# Altium footprint library con-3m.PCBLIB: 62 footprints (part 2 of 6)
Each footprint in its own frame and in the unit in brackets; x right, y up, seen from the top. Pads: shape width x height; smd on the part's side, far side on the other; paste and mask are expansions set on the pad; w line width, h text height; cw(c..) or ccw(c..) is an arc to the next point about the centre after c.
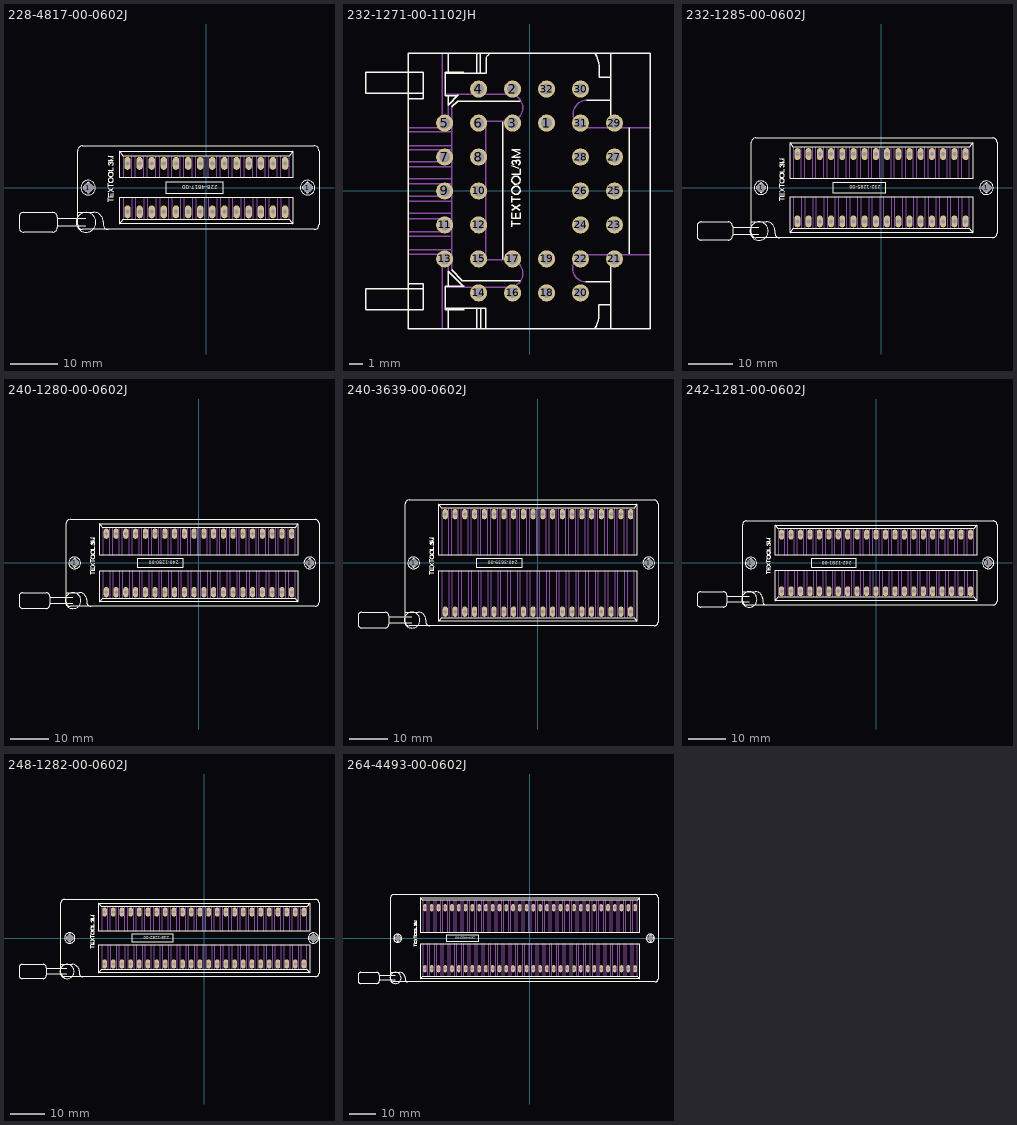
[diagram p1: the footprints below, top view; thin cyan lines are the x and y axes]

## 228-4817-00-0602J [mm]
pads (30):
  round 2 hole 2: 1(-24.74,0) 1(21.24,0)
  oval 1.35x2.7 hole 0.9: 1(-16.51,-5.08) 2(-13.97,-5.08) 3(-11.43,-5.08) 4(-8.89,-5.08) 5(-6.35,-5.08) 6(-3.81,-5.08) 7(-1.27,-5.08) 8(1.27,-5.08) 9(3.81,-5.08) 10(6.35,-5.08) 11(8.89,-5.08) 12(11.43,-5.08) 13(13.97,-5.08) 14(16.51,-5.08) 15(16.51,5.08) 16(13.97,5.08) 17(11.43,5.08) 18(8.89,5.08) 19(6.35,5.08) 20(3.81,5.08) 21(1.27,5.08) 22(-1.27,5.08) 23(-3.81,5.08) 24(-6.35,5.08) 25(-8.89,5.08) 26(-11.43,5.08) 27(-13.97,5.08) 28(-16.51,5.08)
Top Overlay:
  circle w0.102: c-24.75,0 r1.53
  circle w0.203: c-25.19,-7.27 r2.072
  circle w0.102: c21.23,0 r1.53
  lines w0.102: -24.99,-0.3 ccw(c-25.06,-0.3) -25.06,-0.23 -25.6,-0.23 cw(c-25.6,0) -25.83,0 cw(c-25.6,0) -25.6,0.23 -25.05,0.23 ccw(c-25.05,0.3) -24.98,0.3 ; -24.98,-0.3 -24.98,-0.85 ccw(c-24.75,-0.85) -24.75,-1.08 ccw(c-24.75,-0.85) -24.52,-0.85 -24.52,-0.31 ; -24.98,0.31 -24.98,0.85 cw(c-24.75,0.85) -24.75,1.08 cw(c-24.75,0.85) -24.52,0.85 -24.52,0.3 ccw(c-24.45,0.3) -24.45,0.23 ; -24.52,-0.3 cw(c-24.45,-0.3) -24.45,-0.23 -23.9,-0.23 ccw(c-23.9,0) -23.67,0 ccw(c-23.9,0) -23.9,0.23 -24.44,0.23 ; -20.56,3.61 -19.51,3.61 -19.51,4.18 ; -20.54,-2.94 -20.54,-2.15 ; -20.54,-1.18 -20.54,-1.88 -19.5,-1.88 -19.5,-1.15 ; -20.54,-0.84 -19.5,-0.12 ; -20.54,-0.12 -19.5,-0.84 ; -20.54,0.12 -20.54,0.9 ; -20.53,-2.54 -19.5,-2.54 ; -20.52,0.52 -19.5,0.52 ; -20.25,4.76 cw(c-20.184,5.072) -20.5,5.11 cw(c-20.271,5.082) -20.39,5.28 cw(c-20.235,5.023) -20.12,5.3 cw(c-20.195,5.12) -20,5.12 ; -20.03,-1.84 -20.03,-1.24 ; -20,5.03 -20,5.12 ; -19.73,4.74 ccw(c-19.724,4.968) -19.5,4.92 ccw(c-20.075,5.046) -19.49,5.11 ccw(c-19.786,5.077) -19.6,5.31 ccw(c-19.754,5.117) -19.88,5.33 ccw(c-19.756,5.12) -20,5.12 ; -19.5,5.66 -20.53,5.66 -19.5,6.13 -20.54,6.61 -19.5,6.61 ; 20.99,-0.3 ccw(c20.92,-0.3) 20.92,-0.23 20.38,-0.23 cw(c20.38,0) 20.15,0 cw(c20.38,0) 20.38,0.23 20.93,0.23 ccw(c20.93,0.3) 21,0.3 ; 21,-0.3 21,-0.85 ccw(c21.23,-0.85) 21.23,-1.08 ccw(c21.23,-0.85) 21.46,-0.85 21.46,-0.31 ; 21,0.31 21,0.85 cw(c21.23,0.85) 21.23,1.08 cw(c21.23,0.85) 21.46,0.85 21.46,0.3 ccw(c21.53,0.3) 21.53,0.23 ; 21.46,-0.3 cw(c21.53,-0.3) 21.53,-0.23 22.08,-0.23 ccw(c22.08,0) 22.31,0 ccw(c22.08,0) 22.08,0.23 21.54,0.23 ; -18.161,-7.62 18.161,-7.62 ; -18.161,-7.62 -18.161,-2.032 18.161,-2.032 18.161,-7.62 ; -18.161,-7.62 -17.399,-6.604 17.399,-6.604 18.161,-7.62 ; -18.161,7.62 -18.161,2.032 18.161,2.032 18.161,7.62 ; -18.161,7.62 18.161,7.62 ; -18.161,7.62 -17.399,6.604 17.399,6.604 18.161,7.62 ; -20.08,1.1 cw(c-20.08,1.57) -20.08,2.04 -19.95,2.04 cw(c-19.95,1.57) -19.95,1.1 -20.08,1.1 ; -20.08,2.33 cw(c-20.08,2.8) -20.08,3.27 -19.95,3.27 cw(c-19.95,2.8) -19.95,2.33 -20.08,2.33 ; -8.382,-1.27 3.429,-1.27 3.429,1.27 -8.382,1.27 -8.382,-1.27
  lines w0.203: -31.15,-8.07 -25.24,-8.07 ; -31.15,-6.52 -25.24,-6.52 ; -26.84,-5.17 -23.59,-5.17 cw(c-23.59,-7.171) -21.59,-7.12 -21.59,-7.77 ccw(c-20.589,-7.77) -20.54,-8.77 ; -39.25,-8.34 -39.25,-6.2 cw(c-38.25,-6.2) -38.25,-5.2 -32.2,-5.2 cw(c-32.2,-6.2) -31.2,-6.2 -31.2,-8.34 cw(c-32.2,-8.34) -32.2,-9.34 -38.25,-9.34 cw(c-38.25,-8.34) -39.25,-8.34 ; -26.95,-7.77 ccw(c-25.95,-7.77) -25.95,-8.77 22.63,-8.77 ccw(c22.63,-7.77) 23.63,-7.77 23.63,7.77 ccw(c22.63,7.77) 22.63,8.77 -25.95,8.77 ccw(c-25.95,7.77) -26.95,7.77 -26.95,-7.77
  text "228-4817-00" at 2.413,0.508 h0.86
Mechanical 16:
  lines w0.102: -17.399,-6.604 -17.399,-2.032 ; -17.399,2.032 -17.399,6.604 ; -15.621,-6.604 -15.621,-2.032 ; -15.621,2.032 -15.621,6.604 ; -14.859,-6.604 -14.859,-2.032 ; -14.859,2.032 -14.859,6.604 ; -13.081,-6.604 -13.081,-2.032 ; -13.081,2.032 -13.081,6.604 ; -12.319,-6.604 -12.319,-2.032 ; -12.319,2.032 -12.319,6.604 ; -10.541,-6.604 -10.541,-2.032 ; -10.541,2.032 -10.541,6.604 ; -9.779,-6.604 -9.779,-2.032 ; -9.779,2.032 -9.779,6.604 ; -8.001,-6.604 -8.001,-2.032 ; -8.001,2.032 -8.001,6.604 ; -7.239,-6.604 -7.239,-2.032 ; -7.239,2.032 -7.239,6.604 ; -5.461,-6.604 -5.461,-2.032 ; -5.461,2.032 -5.461,6.604 ; -4.699,-6.604 -4.699,-2.032 ; -4.699,2.032 -4.699,6.604 ; -2.921,-6.604 -2.921,-2.032 ; -2.921,2.032 -2.921,6.604 ; -2.159,-6.604 -2.159,-2.032 ; -2.159,2.032 -2.159,6.604 ; -0.381,-6.604 -0.381,-2.032 ; -0.381,2.032 -0.381,6.604 ; 0.381,-6.604 0.381,-2.032 ; 0.381,2.032 0.381,6.604 ; 2.159,-6.604 2.159,-2.032 ; 2.159,2.032 2.159,6.604 ; 2.921,-6.604 2.921,-2.032 ; 2.921,2.032 2.921,6.604 ; 4.699,-6.604 4.699,-2.032 ; 4.699,2.032 4.699,6.604 ; 5.461,-6.604 5.461,-2.032 ; 5.461,2.032 5.461,6.604 ; 7.239,-6.604 7.239,-2.032 ; 7.239,2.032 7.239,6.604 ; 8.001,-6.604 8.001,-2.032 ; 8.001,2.032 8.001,6.604 ; 9.779,-6.604 9.779,-2.032 ; 9.779,2.032 9.779,6.604 ; 10.541,-6.604 10.541,-2.032 ; 10.541,2.032 10.541,6.604 ; 12.319,-6.604 12.319,-2.032 ; 12.319,2.032 12.319,6.604 ; 13.081,-6.604 13.081,-2.032 ; 13.081,2.032 13.081,6.604 ; 14.859,-6.604 14.859,-2.032 ; 14.859,2.032 14.859,6.604 ; 15.621,-6.604 15.621,-2.032 ; 15.621,2.032 15.621,6.604 ; 17.399,-6.604 17.399,-2.032 ; 17.399,2.032 17.399,6.604

## 232-1271-00-1102JH [mil]
pads (32):
  round 50 hole 31.5: 1(50,200) 2(-50,300) 3(-50,200) 4(-150,300) 5(-250,200) 6(-150,200) 7(-250,100) 8(-150,100) 9(-250,0) 10(-150,0) 11(-250,-100) 12(-150,-100) 13(-250,-200) 14(-150,-300) 15(-150,-200) 16(-50,-300) 17(-50,-200) 18(50,-300) 19(50,-200) 20(150,-300) 21(250,-200) 22(150,-200) 23(250,-100) 24(150,-100) 25(250,0) 26(150,0) 27(250,100) 28(150,100) 29(250,200) 30(150,300) 31(150,200) 32(50,300)
Top Overlay:
  circle w4: c-40.01,1.98 r12.12
  circle w4: c-40.01,31.96 r12.12
  lines w4: -482.64,-348.94 -358.37,-348.94 ; -482.64,-348.8 -482.64,-288.21 ; -482.64,-287.85 -358.37,-287.85 ; -482.64,287.35 -358.37,287.35 ; -482.64,287.72 -482.64,349.58 ; -482.64,349.71 -359.01,349.71 ; -355.72,-348.94 -312.45,-348.94 -312.45,-272.57 -355.72,-272.57 ; -355.72,-287.85 -315,-287.85 ; -355.72,287.35 -315,287.35 ; -355.72,349.71 -312.45,349.71 -312.45,272.07 -354.45,272.07 ; -246.27,-345.12 -239.91,-345.12 ; -245,345.89 -127.91,345.89 -127.91,386.62 cw(c-108.82,386.62) -108.82,405.71 ; -239.91,-403.66 -239.91,-345.12 ; -239.91,-278.94 -239.91,-235.66 -196.63,-278.94 ; -239.91,279.71 -239.91,252.98 -209.98,282.9 ; -239.91,349.71 -239.91,404.44 ; -229.72,-231.84 -197.91,-263.66 -27.36,-263.66 ; -228.45,247.89 -211.9,264.44 -27.36,264.44 ; -214.5,280.98 -247.54,280.98 -247.54,349.71 -194.09,349.71 ; -192.82,-280.21 -247.54,-280.21 -247.54,-348.94 -192.7,-348.94 ; -155.91,-404.93 -155.91,-347.66 ; -155.91,348.44 -155.91,403.16 ; -144.45,348.44 -144.45,403.16 ; -143.18,-403.66 -143.18,-347.66 ; -129.18,-404.93 -129.18,-345.12 -239.91,-345.12 ; -78.27,-201.3 -78.27,202.07 ; -52.13,-105.17 -52.13,-87.31 ; -52.13,-64.35 -52.13,-80.93 -27.89,-80.93 -27.89,-64.35 ; -52.13,-56.69 -27.89,-40.11 ; -52.13,-40.75 -28.53,-56.69 ; -52.13,-33.73 -52.13,-15.87 ; -52.13,49.18 -27.89,49.18 -27.89,65.76 ; -52.13,74.06 -32.35,67.68 ; -50.85,-96.24 -27.89,-96.24 ; -50.85,-24.8 -27.89,-24.8 ; -46.39,77.88 cw(c-38.35,97.09) -48.94,79.16 cw(c-46.1,83.98) -47.66,89.36 cw(c-45.43,81.71) -43.2,89.36 cw(c-44.69,84.26) -39.37,84.26 ; -40.65,-79.02 -40.65,-65.62 ; -39.37,82.35 -39.37,84.26 ; -32.99,77.24 ccw(c-34.11,83.05) -29.17,79.8 ccw(c-35.3,83.85) -30.44,89.36 ccw(c-33.9,85.44) -38.73,87.45 ccw(c-31.07,84.25) -39.37,84.26 ; -27.89,99.57 -52.13,99.57 -27.89,110.41 -52.13,121.25 -27.89,121.25 ; 166.09,-267.48 237.36,-267.48 ; 168.63,266.98 236.09,266.98 ; 191.55,-404.93 ccw(c132.75,-364.21) 204.27,-364.21 204.27,-334.94 237.36,-334.94 ; 192.82,404.44 cw(c116.71,358.62) 205.55,358.62 205.55,334.44 236.09,334.44 ; 238.64,-404.93 238.64,-189.85 ; 238.64,189.35 238.64,403.16 ; 293.36,-184.76 293.36,185.53 ; -108.82,405.71 355.72,405.71 355.72,-406.21 -357,-406.21 -357,405.71 -108.82,405.71
Mechanical 16:
  lines w4: -355.09,-133.84 -232.91,-133.84 ; -355.09,-119.84 -232.91,-119.84 ; -354.45,-186.03 -229.72,-186.03 -229.72,186.8 -354.45,186.8 ; -354.45,-173.3 -232.27,-173.3 ; -354.45,-30.1 -232.27,-30.1 ; -354.45,-14.83 -232.27,-14.83 ; -354.45,20.81 -232.27,20.81 ; -354.45,35.97 -232.27,35.97 ; -354.45,71.61 -232.27,71.61 ; -354.45,85.61 -232.27,85.61 ; -354.45,121.24 -232.27,121.24 ; -354.45,132.7 -232.27,132.7 ; -354.45,174.07 -232.27,174.07 ; -353.81,-81.01 -230.36,-81.01 ; -353.81,-65.74 -231.63,-65.74 ; -256.45,-403.66 -256.45,-187.3 ; -256.45,189.35 -256.45,404.44 ; -246.27,284.8 -59.18,284.8 cw(c-59.18,245.34) -19.72,245.35 cw(c-60.45,245.35) -60.45,204.62 -129.18,204.62 -129.18,-202.57 -59.18,-202.57 cw(c-59.18,-242.03) -19.72,-242.03 cw(c-61.72,-242.03) -61.72,-284.03 -245,-284.03 ; -239.91,-235.66 -239.91,-187.3 ; -239.91,189.35 -239.91,252.98 ; -229.72,-231.84 -229.72,-187.3 ; -228.45,188.07 -228.45,247.89 ; 166.09,-267.48 cw(c166.1,-228.02) 126.64,-228.03 cw(c167.37,-228.03) 167.37,-187.3 354.45,-187.3 ; 168.63,266.98 ccw(c168.63,226.26) 127.91,226.26 ccw(c167.37,226.26) 167.37,186.8 354.45,186.8

## 232-1285-00-0602J [mm]
pads (34):
  round 2 hole 2: 1(-27.28,0) 1(23.78,0)
  oval 1.35x2.7 hole 0.9: 1(-19.05,-7.62) 2(-16.51,-7.62) 3(-13.97,-7.62) 4(-11.43,-7.62) 5(-8.89,-7.62) 6(-6.35,-7.62) 7(-3.81,-7.62) 8(-1.27,-7.62) 9(1.27,-7.62) 10(3.81,-7.62) 11(6.35,-7.62) 12(8.89,-7.62) 13(11.43,-7.62) 14(13.97,-7.62) 15(16.51,-7.62) 16(19.05,-7.62) 17(19.05,7.62) 18(16.51,7.62) 19(13.97,7.62) 20(11.43,7.62) 21(8.89,7.62) 22(6.35,7.62) 23(3.81,7.62) 24(1.27,7.62) 25(-1.27,7.62) 26(-3.81,7.62) 27(-6.35,7.62) 28(-8.89,7.62) 29(-11.43,7.62) 30(-13.97,7.62) 31(-16.51,7.62) 32(-19.05,7.62)
Top Overlay:
  circle w0.102: c-27.29,0 r1.53
  circle w0.203: c-27.73,-9.81 r2.072
  circle w0.102: c23.77,0 r1.53
  lines w0.102: -27.53,-0.3 ccw(c-27.6,-0.3) -27.6,-0.23 -28.14,-0.23 cw(c-28.14,0) -28.37,0 cw(c-28.14,0) -28.14,0.23 -27.59,0.23 ccw(c-27.59,0.3) -27.52,0.3 ; -27.52,-0.3 -27.52,-0.85 ccw(c-27.29,-0.85) -27.29,-1.08 ccw(c-27.29,-0.85) -27.06,-0.85 -27.06,-0.31 ; -27.52,0.31 -27.52,0.85 cw(c-27.29,0.85) -27.29,1.08 cw(c-27.29,0.85) -27.06,0.85 -27.06,0.3 ccw(c-26.99,0.3) -26.99,0.23 ; -27.06,-0.3 cw(c-26.99,-0.3) -26.99,-0.23 -26.44,-0.23 ccw(c-26.44,0) -26.21,0 ccw(c-26.44,0) -26.44,0.23 -26.98,0.23 ; -23.1,3.61 -22.05,3.61 -22.05,4.18 ; -23.08,-2.94 -23.08,-2.15 ; -23.08,-1.18 -23.08,-1.88 -22.04,-1.88 -22.04,-1.15 ; -23.08,-0.84 -22.04,-0.12 ; -23.08,-0.12 -22.04,-0.84 ; -23.08,0.12 -23.08,0.9 ; -23.07,-2.54 -22.04,-2.54 ; -23.06,0.52 -22.04,0.52 ; -22.79,4.76 cw(c-22.724,5.072) -23.04,5.11 cw(c-22.811,5.082) -22.93,5.28 cw(c-22.775,5.023) -22.66,5.3 cw(c-22.735,5.12) -22.54,5.12 ; -22.57,-1.84 -22.57,-1.24 ; -22.54,5.03 -22.54,5.12 ; -22.27,4.74 ccw(c-22.264,4.968) -22.04,4.92 ccw(c-22.615,5.046) -22.03,5.11 ccw(c-22.326,5.077) -22.14,5.31 ccw(c-22.294,5.117) -22.42,5.33 ccw(c-22.296,5.12) -22.54,5.12 ; -22.04,5.66 -23.07,5.66 -22.04,6.13 -23.08,6.61 -22.04,6.61 ; 23.53,-0.3 ccw(c23.46,-0.3) 23.46,-0.23 22.92,-0.23 cw(c22.92,0) 22.69,0 cw(c22.92,0) 22.92,0.23 23.47,0.23 ccw(c23.47,0.3) 23.54,0.3 ; 23.54,-0.3 23.54,-0.85 ccw(c23.77,-0.85) 23.77,-1.08 ccw(c23.77,-0.85) 24,-0.85 24,-0.31 ; 23.54,0.31 23.54,0.85 cw(c23.77,0.85) 23.77,1.08 cw(c23.77,0.85) 24,0.85 24,0.3 ccw(c24.07,0.3) 24.07,0.23 ; 24,-0.3 cw(c24.07,-0.3) 24.07,-0.23 24.62,-0.23 ccw(c24.62,0) 24.85,0 ccw(c24.62,0) 24.62,0.23 24.08,0.23 ; -20.701,-10.16 20.701,-10.16 ; -20.701,-10.16 -20.701,-2.032 20.701,-2.032 20.701,-10.16 ; -20.701,-10.16 -19.939,-9.144 19.939,-9.144 20.701,-10.16 ; -20.701,10.16 -20.701,2.032 20.701,2.032 20.701,10.16 ; -20.701,10.16 20.701,10.16 ; -20.701,10.16 -19.939,9.144 19.939,9.144 20.701,10.16 ; -22.62,1.1 cw(c-22.62,1.57) -22.62,2.04 -22.49,2.04 cw(c-22.49,1.57) -22.49,1.1 -22.62,1.1 ; -22.62,2.33 cw(c-22.62,2.8) -22.62,3.27 -22.49,3.27 cw(c-22.49,2.8) -22.49,2.33 -22.62,2.33 ; -10.922,-1.27 0.889,-1.27 0.889,1.27 -10.922,1.27 -10.922,-1.27
  lines w0.203: -33.69,-10.61 -27.78,-10.61 ; -33.69,-9.06 -27.78,-9.06 ; -29.38,-7.71 -26.13,-7.71 cw(c-26.13,-9.711) -24.13,-9.66 -24.13,-10.31 ccw(c-23.129,-10.31) -23.08,-11.31 ; -41.79,-10.88 -41.79,-8.74 cw(c-40.79,-8.74) -40.79,-7.74 -34.74,-7.74 cw(c-34.74,-8.74) -33.74,-8.74 -33.74,-10.88 cw(c-34.74,-10.88) -34.74,-11.88 -40.79,-11.88 cw(c-40.79,-10.88) -41.79,-10.88 ; -29.49,-10.31 ccw(c-28.49,-10.31) -28.49,-11.31 25.17,-11.31 ccw(c25.17,-10.31) 26.17,-10.31 26.17,10.31 ccw(c25.17,10.31) 25.17,11.31 -28.49,11.31 ccw(c-28.49,10.31) -29.49,10.31 -29.49,-10.31
  text "232-1285-00" at -0.127,0.508 h0.86
Mechanical 16:
  lines w0.102: -19.939,-9.144 -19.939,-2.032 ; -19.939,2.032 -19.939,9.144 ; -18.161,-9.144 -18.161,-2.032 ; -18.161,2.032 -18.161,9.144 ; -17.399,-9.144 -17.399,-2.032 ; -17.399,2.032 -17.399,9.144 ; -15.621,-9.144 -15.621,-2.032 ; -15.621,2.032 -15.621,9.144 ; -14.859,-9.144 -14.859,-2.032 ; -14.859,2.032 -14.859,9.144 ; -13.081,-9.144 -13.081,-2.032 ; -13.081,2.032 -13.081,9.144 ; -12.319,-9.144 -12.319,-2.032 ; -12.319,2.032 -12.319,9.144 ; -10.541,-9.144 -10.541,-2.032 ; -10.541,2.032 -10.541,9.144 ; -9.779,-9.144 -9.779,-2.032 ; -9.779,2.032 -9.779,9.144 ; -8.001,-9.144 -8.001,-2.032 ; -8.001,2.032 -8.001,9.144 ; -7.239,-9.144 -7.239,-2.032 ; -7.239,2.032 -7.239,9.144 ; -5.461,-9.144 -5.461,-2.032 ; -5.461,2.032 -5.461,9.144 ; -4.699,-9.144 -4.699,-2.032 ; -4.699,2.032 -4.699,9.144 ; -2.921,-9.144 -2.921,-2.032 ; -2.921,2.032 -2.921,9.144 ; -2.159,-9.144 -2.159,-2.032 ; -2.159,2.032 -2.159,9.144 ; -0.381,-9.144 -0.381,-2.032 ; -0.381,2.032 -0.381,9.144 ; 0.381,-9.144 0.381,-2.032 ; 0.381,2.032 0.381,9.144 ; 2.159,-9.144 2.159,-2.032 ; 2.159,2.032 2.159,9.144 ; 2.921,-9.144 2.921,-2.032 ; 2.921,2.032 2.921,9.144 ; 4.699,-9.144 4.699,-2.032 ; 4.699,2.032 4.699,9.144 ; 5.461,-9.144 5.461,-2.032 ; 5.461,2.032 5.461,9.144 ; 7.239,-9.144 7.239,-2.032 ; 7.239,2.032 7.239,9.144 ; 8.001,-9.144 8.001,-2.032 ; 8.001,2.032 8.001,9.144 ; 9.779,-9.144 9.779,-2.032 ; 9.779,2.032 9.779,9.144 ; 10.541,-9.144 10.541,-2.032 ; 10.541,2.032 10.541,9.144 ; 12.319,-9.144 12.319,-2.032 ; 12.319,2.032 12.319,9.144 ; 13.081,-9.144 13.081,-2.032 ; 13.081,2.032 13.081,9.144 ; 14.859,-9.144 14.859,-2.032 ; 14.859,2.032 14.859,9.144 ; 15.621,-9.144 15.621,-2.032 ; 15.621,2.032 15.621,9.144 ; 17.399,-9.144 17.399,-2.032 ; 17.399,2.032 17.399,9.144 ; 18.161,-9.144 18.161,-2.032 ; 18.161,2.032 18.161,9.144 ; 19.939,-9.144 19.939,-2.032 ; 19.939,2.032 19.939,9.144

## 240-1280-00-0602J [mm]
pads (42):
  round 2 hole 2: 1(-32.36,0) 1(28.86,0)
  oval 1.35x2.7 hole 0.9: 1(-24.13,-7.62) 2(-21.59,-7.62) 3(-19.05,-7.62) 4(-16.51,-7.62) 5(-13.97,-7.62) 6(-11.43,-7.62) 7(-8.89,-7.62) 8(-6.35,-7.62) 9(-3.81,-7.62) 10(-1.27,-7.62) 11(1.27,-7.62) 12(3.81,-7.62) 13(6.35,-7.62) 14(8.89,-7.62) 15(11.43,-7.62) 16(13.97,-7.62) 17(16.51,-7.62) 18(19.05,-7.62) 19(21.59,-7.62) 20(24.13,-7.62) 21(24.13,7.62) 22(21.59,7.62) 23(19.05,7.62) 24(16.51,7.62) 25(13.97,7.62) 26(11.43,7.62) 27(8.89,7.62) 28(6.35,7.62) 29(3.81,7.62) 30(1.27,7.62) 31(-1.27,7.62) 32(-3.81,7.62) 33(-6.35,7.62) 34(-8.89,7.62) 35(-11.43,7.62) 36(-13.97,7.62) 37(-16.51,7.62) 38(-19.05,7.62) 39(-21.59,7.62) 40(-24.13,7.62)
Top Overlay:
  circle w0.102: c-32.37,0 r1.53
  circle w0.203: c-32.81,-9.81 r2.072
  circle w0.102: c28.85,0 r1.53
  lines w0.102: -32.61,-0.3 ccw(c-32.68,-0.3) -32.68,-0.23 -33.22,-0.23 cw(c-33.22,0) -33.45,0 cw(c-33.22,0) -33.22,0.23 -32.67,0.23 ccw(c-32.67,0.3) -32.6,0.3 ; -32.6,-0.3 -32.6,-0.85 ccw(c-32.37,-0.85) -32.37,-1.08 ccw(c-32.37,-0.85) -32.14,-0.85 -32.14,-0.31 ; -32.6,0.31 -32.6,0.85 cw(c-32.37,0.85) -32.37,1.08 cw(c-32.37,0.85) -32.14,0.85 -32.14,0.3 ccw(c-32.07,0.3) -32.07,0.23 ; -32.14,-0.3 cw(c-32.07,-0.3) -32.07,-0.23 -31.52,-0.23 ccw(c-31.52,0) -31.29,0 ccw(c-31.52,0) -31.52,0.23 -32.06,0.23 ; -28.18,3.61 -27.13,3.61 -27.13,4.18 ; -28.16,-2.94 -28.16,-2.15 ; -28.16,-1.18 -28.16,-1.88 -27.12,-1.88 -27.12,-1.15 ; -28.16,-0.84 -27.12,-0.12 ; -28.16,-0.12 -27.12,-0.84 ; -28.16,0.12 -28.16,0.9 ; -28.15,-2.54 -27.12,-2.54 ; -28.14,0.52 -27.12,0.52 ; -27.87,4.76 cw(c-27.804,5.072) -28.12,5.11 cw(c-27.891,5.082) -28.01,5.28 cw(c-27.855,5.023) -27.74,5.3 cw(c-27.815,5.12) -27.62,5.12 ; -27.65,-1.84 -27.65,-1.24 ; -27.62,5.03 -27.62,5.12 ; -27.35,4.74 ccw(c-27.344,4.968) -27.12,4.92 ccw(c-27.695,5.046) -27.11,5.11 ccw(c-27.406,5.077) -27.22,5.31 ccw(c-27.374,5.117) -27.5,5.33 ccw(c-27.376,5.12) -27.62,5.12 ; -27.12,5.66 -28.15,5.66 -27.12,6.13 -28.16,6.61 -27.12,6.61 ; 28.61,-0.3 ccw(c28.54,-0.3) 28.54,-0.23 28,-0.23 cw(c28,0) 27.77,0 cw(c28,0) 28,0.23 28.55,0.23 ccw(c28.55,0.3) 28.62,0.3 ; 28.62,-0.3 28.62,-0.85 ccw(c28.85,-0.85) 28.85,-1.08 ccw(c28.85,-0.85) 29.08,-0.85 29.08,-0.31 ; 28.62,0.31 28.62,0.85 cw(c28.85,0.85) 28.85,1.08 cw(c28.85,0.85) 29.08,0.85 29.08,0.3 ccw(c29.15,0.3) 29.15,0.23 ; 29.08,-0.3 cw(c29.15,-0.3) 29.15,-0.23 29.7,-0.23 ccw(c29.7,0) 29.93,0 ccw(c29.7,0) 29.7,0.23 29.16,0.23 ; -25.781,-10.16 25.781,-10.16 ; -25.781,-10.16 -25.781,-2.032 25.781,-2.032 25.781,-10.16 ; -25.781,-10.16 -25.019,-9.144 25.019,-9.144 25.781,-10.16 ; -25.781,10.16 -25.781,2.032 25.781,2.032 25.781,10.16 ; -25.781,10.16 25.781,10.16 ; -25.781,10.16 -25.019,9.144 25.019,9.144 25.781,10.16 ; -27.7,1.1 cw(c-27.7,1.57) -27.7,2.04 -27.57,2.04 cw(c-27.57,1.57) -27.57,1.1 -27.7,1.1 ; -27.7,2.33 cw(c-27.7,2.8) -27.7,3.27 -27.57,3.27 cw(c-27.57,2.8) -27.57,2.33 -27.7,2.33 ; -16.002,-1.27 -4.191,-1.27 -4.191,1.27 -16.002,1.27 -16.002,-1.27
  lines w0.203: -38.77,-10.61 -32.86,-10.61 ; -38.77,-9.06 -32.86,-9.06 ; -34.46,-7.71 -31.21,-7.71 cw(c-31.21,-9.711) -29.21,-9.66 -29.21,-10.31 ccw(c-28.209,-10.31) -28.16,-11.31 ; -46.87,-10.88 -46.87,-8.74 cw(c-45.87,-8.74) -45.87,-7.74 -39.82,-7.74 cw(c-39.82,-8.74) -38.82,-8.74 -38.82,-10.88 cw(c-39.82,-10.88) -39.82,-11.88 -45.87,-11.88 cw(c-45.87,-10.88) -46.87,-10.88 ; -34.57,-10.31 ccw(c-33.57,-10.31) -33.57,-11.31 30.25,-11.31 ccw(c30.25,-10.31) 31.25,-10.31 31.25,10.31 ccw(c30.25,10.31) 30.25,11.31 -33.57,11.31 ccw(c-33.57,10.31) -34.57,10.31 -34.57,-10.31
  text "240-1280-00" at -5.207,0.508 h0.86
Mechanical 16:
  lines w0.102: -25.019,-9.144 -25.019,-2.032 ; -25.019,2.032 -25.019,9.144 ; -23.241,-9.144 -23.241,-2.032 ; -23.241,2.032 -23.241,9.144 ; -22.479,-9.144 -22.479,-2.032 ; -22.479,2.032 -22.479,9.144 ; -20.701,-9.144 -20.701,-2.032 ; -20.701,2.032 -20.701,9.144 ; -19.939,-9.144 -19.939,-2.032 ; -19.939,2.032 -19.939,9.144 ; -18.161,-9.144 -18.161,-2.032 ; -18.161,2.032 -18.161,9.144 ; -17.399,-9.144 -17.399,-2.032 ; -17.399,2.032 -17.399,9.144 ; -15.621,-9.144 -15.621,-2.032 ; -15.621,2.032 -15.621,9.144 ; -14.859,-9.144 -14.859,-2.032 ; -14.859,2.032 -14.859,9.144 ; -13.081,-9.144 -13.081,-2.032 ; -13.081,2.032 -13.081,9.144 ; -12.319,-9.144 -12.319,-2.032 ; -12.319,2.032 -12.319,9.144 ; -10.541,-9.144 -10.541,-2.032 ; -10.541,2.032 -10.541,9.144 ; -9.779,-9.144 -9.779,-2.032 ; -9.779,2.032 -9.779,9.144 ; -8.001,-9.144 -8.001,-2.032 ; -8.001,2.032 -8.001,9.144 ; -7.239,-9.144 -7.239,-2.032 ; -7.239,2.032 -7.239,9.144 ; -5.461,-9.144 -5.461,-2.032 ; -5.461,2.032 -5.461,9.144 ; -4.699,-9.144 -4.699,-2.032 ; -4.699,2.032 -4.699,9.144 ; -2.921,-9.144 -2.921,-2.032 ; -2.921,2.032 -2.921,9.144 ; -2.159,-9.144 -2.159,-2.032 ; -2.159,2.032 -2.159,9.144 ; -0.381,-9.144 -0.381,-2.032 ; -0.381,2.032 -0.381,9.144 ; 0.381,-9.144 0.381,-2.032 ; 0.381,2.032 0.381,9.144 ; 2.159,-9.144 2.159,-2.032 ; 2.159,2.032 2.159,9.144 ; 2.921,-9.144 2.921,-2.032 ; 2.921,2.032 2.921,9.144 ; 4.699,-9.144 4.699,-2.032 ; 4.699,2.032 4.699,9.144 ; 5.461,-9.144 5.461,-2.032 ; 5.461,2.032 5.461,9.144 ; 7.239,-9.144 7.239,-2.032 ; 7.239,2.032 7.239,9.144 ; 8.001,-9.144 8.001,-2.032 ; 8.001,2.032 8.001,9.144 ; 9.779,-9.144 9.779,-2.032 ; 9.779,2.032 9.779,9.144 ; 10.541,-9.144 10.541,-2.032 ; 10.541,2.032 10.541,9.144 ; 12.319,-9.144 12.319,-2.032 ; 12.319,2.032 12.319,9.144 ; 13.081,-9.144 13.081,-2.032 ; 13.081,2.032 13.081,9.144 ; 14.859,-9.144 14.859,-2.032 ; 14.859,2.032 14.859,9.144 ; 15.621,-9.144 15.621,-2.032 ; 15.621,2.032 15.621,9.144 ; 17.399,-9.144 17.399,-2.032 ; 17.399,2.032 17.399,9.144 ; 18.161,-9.144 18.161,-2.032 ; 18.161,2.032 18.161,9.144 ; 19.939,-9.144 19.939,-2.032 ; 19.939,2.032 19.939,9.144 ; 20.701,-9.144 20.701,-2.032 ; 20.701,2.032 20.701,9.144 ; 22.479,-9.144 22.479,-2.032 ; 22.479,2.032 22.479,9.144 ; 23.241,-9.144 23.241,-2.032 ; 23.241,2.032 23.241,9.144 ; 25.019,-9.144 25.019,-2.032 ; 25.019,2.032 25.019,9.144

## 240-3639-00-0602J [mm]
pads (42):
  round 2 hole 2: 1(-32.36,0) 1(28.86,0)
  oval 1.35x2.7 hole 0.9: 1(-24.13,-12.7) 2(-21.59,-12.7) 3(-19.05,-12.7) 4(-16.51,-12.7) 5(-13.97,-12.7) 6(-11.43,-12.7) 7(-8.89,-12.7) 8(-6.35,-12.7) 9(-3.81,-12.7) 10(-1.27,-12.7) 11(1.27,-12.7) 12(3.81,-12.7) 13(6.35,-12.7) 14(8.89,-12.7) 15(11.43,-12.7) 16(13.97,-12.7) 17(16.51,-12.7) 18(19.05,-12.7) 19(21.59,-12.7) 20(24.13,-12.7) 21(24.13,12.7) 22(21.59,12.7) 23(19.05,12.7) 24(16.51,12.7) 25(13.97,12.7) 26(11.43,12.7) 27(8.89,12.7) 28(6.35,12.7) 29(3.81,12.7) 30(1.27,12.7) 31(-1.27,12.7) 32(-3.81,12.7) 33(-6.35,12.7) 34(-8.89,12.7) 35(-11.43,12.7) 36(-13.97,12.7) 37(-16.51,12.7) 38(-19.05,12.7) 39(-21.59,12.7) 40(-24.13,12.7)
Top Overlay:
  circle w0.102: c-32.37,0 r1.53
  circle w0.203: c-32.81,-14.89 r2.072
  circle w0.102: c28.85,0 r1.53
  lines w0.102: -32.61,-0.3 ccw(c-32.68,-0.3) -32.68,-0.23 -33.22,-0.23 cw(c-33.22,0) -33.45,0 cw(c-33.22,0) -33.22,0.23 -32.67,0.23 ccw(c-32.67,0.3) -32.6,0.3 ; -32.6,-0.3 -32.6,-0.85 ccw(c-32.37,-0.85) -32.37,-1.08 ccw(c-32.37,-0.85) -32.14,-0.85 -32.14,-0.31 ; -32.6,0.31 -32.6,0.85 cw(c-32.37,0.85) -32.37,1.08 cw(c-32.37,0.85) -32.14,0.85 -32.14,0.3 ccw(c-32.07,0.3) -32.07,0.23 ; -32.14,-0.3 cw(c-32.07,-0.3) -32.07,-0.23 -31.52,-0.23 ccw(c-31.52,0) -31.29,0 ccw(c-31.52,0) -31.52,0.23 -32.06,0.23 ; -28.18,3.61 -27.13,3.61 -27.13,4.18 ; -28.16,-2.94 -28.16,-2.15 ; -28.16,-1.18 -28.16,-1.88 -27.12,-1.88 -27.12,-1.15 ; -28.16,-0.84 -27.12,-0.12 ; -28.16,-0.12 -27.12,-0.84 ; -28.16,0.12 -28.16,0.9 ; -28.15,-2.54 -27.12,-2.54 ; -28.14,0.52 -27.12,0.52 ; -27.87,4.76 cw(c-27.804,5.072) -28.12,5.11 cw(c-27.891,5.082) -28.01,5.28 cw(c-27.855,5.023) -27.74,5.3 cw(c-27.815,5.12) -27.62,5.12 ; -27.65,-1.84 -27.65,-1.24 ; -27.62,5.03 -27.62,5.12 ; -27.35,4.74 ccw(c-27.344,4.968) -27.12,4.92 ccw(c-27.695,5.046) -27.11,5.11 ccw(c-27.406,5.077) -27.22,5.31 ccw(c-27.374,5.117) -27.5,5.33 ccw(c-27.376,5.12) -27.62,5.12 ; -27.12,5.66 -28.15,5.66 -27.12,6.13 -28.16,6.61 -27.12,6.61 ; 28.61,-0.3 ccw(c28.54,-0.3) 28.54,-0.23 28,-0.23 cw(c28,0) 27.77,0 cw(c28,0) 28,0.23 28.55,0.23 ccw(c28.55,0.3) 28.62,0.3 ; 28.62,-0.3 28.62,-0.85 ccw(c28.85,-0.85) 28.85,-1.08 ccw(c28.85,-0.85) 29.08,-0.85 29.08,-0.31 ; 28.62,0.31 28.62,0.85 cw(c28.85,0.85) 28.85,1.08 cw(c28.85,0.85) 29.08,0.85 29.08,0.3 ccw(c29.15,0.3) 29.15,0.23 ; 29.08,-0.3 cw(c29.15,-0.3) 29.15,-0.23 29.7,-0.23 ccw(c29.7,0) 29.93,0 ccw(c29.7,0) 29.7,0.23 29.16,0.23 ; -25.781,-15.24 25.781,-15.24 ; -25.781,-15.24 -25.781,-2.032 25.781,-2.032 25.781,-15.24 ; -25.781,-15.24 -25.019,-14.224 25.019,-14.224 25.781,-15.24 ; -25.781,15.24 -25.781,2.032 25.781,2.032 25.781,15.24 ; -25.781,15.24 25.781,15.24 ; -25.781,15.24 -25.019,14.224 25.019,14.224 25.781,15.24 ; -27.7,1.1 cw(c-27.7,1.57) -27.7,2.04 -27.57,2.04 cw(c-27.57,1.57) -27.57,1.1 -27.7,1.1 ; -27.7,2.33 cw(c-27.7,2.8) -27.7,3.27 -27.57,3.27 cw(c-27.57,2.8) -27.57,2.33 -27.7,2.33 ; -16.002,-1.27 -4.191,-1.27 -4.191,1.27 -16.002,1.27 -16.002,-1.27
  lines w0.203: -38.77,-15.69 -32.86,-15.69 ; -38.77,-14.14 -32.86,-14.14 ; -34.46,-12.79 -31.21,-12.79 cw(c-31.21,-14.791) -29.21,-14.74 -29.21,-15.39 ccw(c-28.209,-15.39) -28.16,-16.39 ; -46.87,-15.96 -46.87,-13.82 cw(c-45.87,-13.82) -45.87,-12.82 -39.82,-12.82 cw(c-39.82,-13.82) -38.82,-13.82 -38.82,-15.96 cw(c-39.82,-15.96) -39.82,-16.96 -45.87,-16.96 cw(c-45.87,-15.96) -46.87,-15.96 ; -34.57,-15.39 ccw(c-33.57,-15.39) -33.57,-16.39 30.25,-16.39 ccw(c30.25,-15.39) 31.25,-15.39 31.25,15.39 ccw(c30.25,15.39) 30.25,16.39 -33.57,16.39 ccw(c-33.57,15.39) -34.57,15.39 -34.57,-15.39
  text "240-3639-00" at -5.207,0.508 h0.86
Mechanical 16:
  lines w0.102: -25.019,-14.224 -25.019,-2.032 ; -25.019,2.032 -25.019,14.224 ; -23.241,-14.224 -23.241,-2.032 ; -23.241,2.032 -23.241,14.224 ; -22.479,-14.224 -22.479,-2.032 ; -22.479,2.032 -22.479,14.224 ; -20.701,-14.224 -20.701,-2.032 ; -20.701,2.032 -20.701,14.224 ; -19.939,-14.224 -19.939,-2.032 ; -19.939,2.032 -19.939,14.224 ; -18.161,-14.224 -18.161,-2.032 ; -18.161,2.032 -18.161,14.224 ; -17.399,-14.224 -17.399,-2.032 ; -17.399,2.032 -17.399,14.224 ; -15.621,-14.224 -15.621,-2.032 ; -15.621,2.032 -15.621,14.224 ; -14.859,-14.224 -14.859,-2.032 ; -14.859,2.032 -14.859,14.224 ; -13.081,-14.224 -13.081,-2.032 ; -13.081,2.032 -13.081,14.224 ; -12.319,-14.224 -12.319,-2.032 ; -12.319,2.032 -12.319,14.224 ; -10.541,-14.224 -10.541,-2.032 ; -10.541,2.032 -10.541,14.224 ; -9.779,-14.224 -9.779,-2.032 ; -9.779,2.032 -9.779,14.224 ; -8.001,-14.224 -8.001,-2.032 ; -8.001,2.032 -8.001,14.224 ; -7.239,-14.224 -7.239,-2.032 ; -7.239,2.032 -7.239,14.224 ; -5.461,-14.224 -5.461,-2.032 ; -5.461,2.032 -5.461,14.224 ; -4.699,-14.224 -4.699,-2.032 ; -4.699,2.032 -4.699,14.224 ; -2.921,-14.224 -2.921,-2.032 ; -2.921,2.032 -2.921,14.224 ; -2.159,-14.224 -2.159,-2.032 ; -2.159,2.032 -2.159,14.224 ; -0.381,-14.224 -0.381,-2.032 ; -0.381,2.032 -0.381,14.224 ; 0.381,-14.224 0.381,-2.032 ; 0.381,2.032 0.381,14.224 ; 2.159,-14.224 2.159,-2.032 ; 2.159,2.032 2.159,14.224 ; 2.921,-14.224 2.921,-2.032 ; 2.921,2.032 2.921,14.224 ; 4.699,-14.224 4.699,-2.032 ; 4.699,2.032 4.699,14.224 ; 5.461,-14.224 5.461,-2.032 ; 5.461,2.032 5.461,14.224 ; 7.239,-14.224 7.239,-2.032 ; 7.239,2.032 7.239,14.224 ; 8.001,-14.224 8.001,-2.032 ; 8.001,2.032 8.001,14.224 ; 9.779,-14.224 9.779,-2.032 ; 9.779,2.032 9.779,14.224 ; 10.541,-14.224 10.541,-2.032 ; 10.541,2.032 10.541,14.224 ; 12.319,-14.224 12.319,-2.032 ; 12.319,2.032 12.319,14.224 ; 13.081,-14.224 13.081,-2.032 ; 13.081,2.032 13.081,14.224 ; 14.859,-14.224 14.859,-2.032 ; 14.859,2.032 14.859,14.224 ; 15.621,-14.224 15.621,-2.032 ; 15.621,2.032 15.621,14.224 ; 17.399,-14.224 17.399,-2.032 ; 17.399,2.032 17.399,14.224 ; 18.161,-14.224 18.161,-2.032 ; 18.161,2.032 18.161,14.224 ; 19.939,-14.224 19.939,-2.032 ; 19.939,2.032 19.939,14.224 ; 20.701,-14.224 20.701,-2.032 ; 20.701,2.032 20.701,14.224 ; 22.479,-14.224 22.479,-2.032 ; 22.479,2.032 22.479,14.224 ; 23.241,-14.224 23.241,-2.032 ; 23.241,2.032 23.241,14.224 ; 25.019,-14.224 25.019,-2.032 ; 25.019,2.032 25.019,14.224

## 242-1281-00-0602J [mm]
pads (44):
  round 2 hole 2: 1(-33.63,0) 1(30.13,0)
  oval 1.35x2.7 hole 0.9: 1(-25.4,-7.62) 2(-22.86,-7.62) 3(-20.32,-7.62) 4(-17.78,-7.62) 5(-15.24,-7.62) 6(-12.7,-7.62) 7(-10.16,-7.62) 8(-7.62,-7.62) 9(-5.08,-7.62) 10(-2.54,-7.62) 11(0,-7.62) 12(2.54,-7.62) 13(5.08,-7.62) 14(7.62,-7.62) 15(10.16,-7.62) 16(12.7,-7.62) 17(15.24,-7.62) 18(17.78,-7.62) 19(20.32,-7.62) 20(22.86,-7.62) 21(25.4,-7.62) 22(25.4,7.62) 23(22.86,7.62) 24(20.32,7.62) 25(17.78,7.62) 26(15.24,7.62) 27(12.7,7.62) 28(10.16,7.62) 29(7.62,7.62) 30(5.08,7.62) 31(2.54,7.62) 32(0,7.62) 33(-2.54,7.62) 34(-5.08,7.62) 35(-7.62,7.62) 36(-10.16,7.62) 37(-12.7,7.62) 38(-15.24,7.62) 39(-17.78,7.62) 40(-20.32,7.62) 41(-22.86,7.62) 42(-25.4,7.62)
Top Overlay:
  circle w0.102: c-33.64,0 r1.53
  circle w0.203: c-34.08,-9.81 r2.072
  circle w0.102: c30.12,0 r1.53
  lines w0.102: -33.88,-0.3 ccw(c-33.95,-0.3) -33.95,-0.23 -34.49,-0.23 cw(c-34.49,0) -34.72,0 cw(c-34.49,0) -34.49,0.23 -33.94,0.23 ccw(c-33.94,0.3) -33.87,0.3 ; -33.87,-0.3 -33.87,-0.85 ccw(c-33.64,-0.85) -33.64,-1.08 ccw(c-33.64,-0.85) -33.41,-0.85 -33.41,-0.31 ; -33.87,0.31 -33.87,0.85 cw(c-33.64,0.85) -33.64,1.08 cw(c-33.64,0.85) -33.41,0.85 -33.41,0.3 ccw(c-33.34,0.3) -33.34,0.23 ; -33.41,-0.3 cw(c-33.34,-0.3) -33.34,-0.23 -32.79,-0.23 ccw(c-32.79,0) -32.56,0 ccw(c-32.79,0) -32.79,0.23 -33.33,0.23 ; -29.45,3.61 -28.4,3.61 -28.4,4.18 ; -29.43,-2.94 -29.43,-2.15 ; -29.43,-1.18 -29.43,-1.88 -28.39,-1.88 -28.39,-1.15 ; -29.43,-0.84 -28.39,-0.12 ; -29.43,-0.12 -28.39,-0.84 ; -29.43,0.12 -29.43,0.9 ; -29.42,-2.54 -28.39,-2.54 ; -29.41,0.52 -28.39,0.52 ; -29.14,4.76 cw(c-29.074,5.072) -29.39,5.11 cw(c-29.161,5.082) -29.28,5.28 cw(c-29.125,5.023) -29.01,5.3 cw(c-29.085,5.12) -28.89,5.12 ; -28.92,-1.84 -28.92,-1.24 ; -28.89,5.03 -28.89,5.12 ; -28.62,4.74 ccw(c-28.614,4.968) -28.39,4.92 ccw(c-28.965,5.046) -28.38,5.11 ccw(c-28.676,5.077) -28.49,5.31 ccw(c-28.644,5.117) -28.77,5.33 ccw(c-28.646,5.12) -28.89,5.12 ; -28.39,5.66 -29.42,5.66 -28.39,6.13 -29.43,6.61 -28.39,6.61 ; 29.88,-0.3 ccw(c29.81,-0.3) 29.81,-0.23 29.27,-0.23 cw(c29.27,0) 29.04,0 cw(c29.27,0) 29.27,0.23 29.82,0.23 ccw(c29.82,0.3) 29.89,0.3 ; 29.89,-0.3 29.89,-0.85 ccw(c30.12,-0.85) 30.12,-1.08 ccw(c30.12,-0.85) 30.35,-0.85 30.35,-0.31 ; 29.89,0.31 29.89,0.85 cw(c30.12,0.85) 30.12,1.08 cw(c30.12,0.85) 30.35,0.85 30.35,0.3 ccw(c30.42,0.3) 30.42,0.23 ; 30.35,-0.3 cw(c30.42,-0.3) 30.42,-0.23 30.97,-0.23 ccw(c30.97,0) 31.2,0 ccw(c30.97,0) 30.97,0.23 30.43,0.23 ; -27.051,-10.16 27.051,-10.16 ; -27.051,-10.16 -27.051,-2.032 27.051,-2.032 27.051,-10.16 ; -27.051,-10.16 -26.289,-9.144 26.289,-9.144 27.051,-10.16 ; -27.051,10.16 -27.051,2.032 27.051,2.032 27.051,10.16 ; -27.051,10.16 27.051,10.16 ; -27.051,10.16 -26.289,9.144 26.289,9.144 27.051,10.16 ; -28.97,1.1 cw(c-28.97,1.57) -28.97,2.04 -28.84,2.04 cw(c-28.84,1.57) -28.84,1.1 -28.97,1.1 ; -28.97,2.33 cw(c-28.97,2.8) -28.97,3.27 -28.84,3.27 cw(c-28.84,2.8) -28.84,2.33 -28.97,2.33 ; -17.272,-1.27 -5.461,-1.27 -5.461,1.27 -17.272,1.27 -17.272,-1.27
  lines w0.203: -40.04,-10.61 -34.13,-10.61 ; -40.04,-9.06 -34.13,-9.06 ; -35.73,-7.71 -32.48,-7.71 cw(c-32.48,-9.711) -30.48,-9.66 -30.48,-10.31 ccw(c-29.479,-10.31) -29.43,-11.31 ; -48.14,-10.88 -48.14,-8.74 cw(c-47.14,-8.74) -47.14,-7.74 -41.09,-7.74 cw(c-41.09,-8.74) -40.09,-8.74 -40.09,-10.88 cw(c-41.09,-10.88) -41.09,-11.88 -47.14,-11.88 cw(c-47.14,-10.88) -48.14,-10.88 ; -35.84,-10.31 ccw(c-34.84,-10.31) -34.84,-11.31 31.52,-11.31 ccw(c31.52,-10.31) 32.52,-10.31 32.52,10.31 ccw(c31.52,10.31) 31.52,11.31 -34.84,11.31 ccw(c-34.84,10.31) -35.84,10.31 -35.84,-10.31
  text "242-1281-00" at -6.477,0.508 h0.86
Mechanical 16:
  lines w0.102: -26.289,-9.144 -26.289,-2.032 ; -26.289,2.032 -26.289,9.144 ; -24.511,-9.144 -24.511,-2.032 ; -24.511,2.032 -24.511,9.144 ; -23.749,-9.144 -23.749,-2.032 ; -23.749,2.032 -23.749,9.144 ; -21.971,-9.144 -21.971,-2.032 ; -21.971,2.032 -21.971,9.144 ; -21.209,-9.144 -21.209,-2.032 ; -21.209,2.032 -21.209,9.144 ; -19.431,-9.144 -19.431,-2.032 ; -19.431,2.032 -19.431,9.144 ; -18.669,-9.144 -18.669,-2.032 ; -18.669,2.032 -18.669,9.144 ; -16.891,-9.144 -16.891,-2.032 ; -16.891,2.032 -16.891,9.144 ; -16.129,-9.144 -16.129,-2.032 ; -16.129,2.032 -16.129,9.144 ; -14.351,-9.144 -14.351,-2.032 ; -14.351,2.032 -14.351,9.144 ; -13.589,-9.144 -13.589,-2.032 ; -13.589,2.032 -13.589,9.144 ; -11.811,-9.144 -11.811,-2.032 ; -11.811,2.032 -11.811,9.144 ; -11.049,-9.144 -11.049,-2.032 ; -11.049,2.032 -11.049,9.144 ; -9.271,-9.144 -9.271,-2.032 ; -9.271,2.032 -9.271,9.144 ; -8.509,-9.144 -8.509,-2.032 ; -8.509,2.032 -8.509,9.144 ; -6.731,-9.144 -6.731,-2.032 ; -6.731,2.032 -6.731,9.144 ; -5.969,-9.144 -5.969,-2.032 ; -5.969,2.032 -5.969,9.144 ; -4.191,-9.144 -4.191,-2.032 ; -4.191,2.032 -4.191,9.144 ; -3.429,-9.144 -3.429,-2.032 ; -3.429,2.032 -3.429,9.144 ; -1.651,-9.144 -1.651,-2.032 ; -1.651,2.032 -1.651,9.144 ; -0.889,-9.144 -0.889,-2.032 ; -0.889,2.032 -0.889,9.144 ; 0.889,-9.144 0.889,-2.032 ; 0.889,2.032 0.889,9.144 ; 1.651,-9.144 1.651,-2.032 ; 1.651,2.032 1.651,9.144 ; 3.429,-9.144 3.429,-2.032 ; 3.429,2.032 3.429,9.144 ; 4.191,-9.144 4.191,-2.032 ; 4.191,2.032 4.191,9.144 ; 5.969,-9.144 5.969,-2.032 ; 5.969,2.032 5.969,9.144 ; 6.731,-9.144 6.731,-2.032 ; 6.731,2.032 6.731,9.144 ; 8.509,-9.144 8.509,-2.032 ; 8.509,2.032 8.509,9.144 ; 9.271,-9.144 9.271,-2.032 ; 9.271,2.032 9.271,9.144 ; 11.049,-9.144 11.049,-2.032 ; 11.049,2.032 11.049,9.144 ; 11.811,-9.144 11.811,-2.032 ; 11.811,2.032 11.811,9.144 ; 13.589,-9.144 13.589,-2.032 ; 13.589,2.032 13.589,9.144 ; 14.351,-9.144 14.351,-2.032 ; 14.351,2.032 14.351,9.144 ; 16.129,-9.144 16.129,-2.032 ; 16.129,2.032 16.129,9.144 ; 16.891,-9.144 16.891,-2.032 ; 16.891,2.032 16.891,9.144 ; 18.669,-9.144 18.669,-2.032 ; 18.669,2.032 18.669,9.144 ; 19.431,-9.144 19.431,-2.032 ; 19.431,2.032 19.431,9.144 ; 21.209,-9.144 21.209,-2.032 ; 21.209,2.032 21.209,9.144 ; 21.971,-9.144 21.971,-2.032 ; 21.971,2.032 21.971,9.144 ; 23.749,-9.144 23.749,-2.032 ; 23.749,2.032 23.749,9.144 ; 24.511,-9.144 24.511,-2.032 ; 24.511,2.032 24.511,9.144 ; 26.289,-9.144 26.289,-2.032 ; 26.289,2.032 26.289,9.144

## 248-1282-00-0602J [mm]
pads (50):
  round 2 hole 2: 1(-39.4,0) 1(32,0)
  oval 1.35x2.7 hole 0.9: 1(-29.21,-7.62) 2(-26.67,-7.62) 3(-24.13,-7.62) 4(-21.59,-7.62) 5(-19.05,-7.62) 6(-16.51,-7.62) 7(-13.97,-7.62) 8(-11.43,-7.62) 9(-8.89,-7.62) 10(-6.35,-7.62) 11(-3.81,-7.62) 12(-1.27,-7.62) 13(1.27,-7.62) 14(3.81,-7.62) 15(6.35,-7.62) 16(8.89,-7.62) 17(11.43,-7.62) 18(13.97,-7.62) 19(16.51,-7.62) 20(19.05,-7.62) 21(21.59,-7.62) 22(24.13,-7.62) 23(26.67,-7.62) 24(29.21,-7.62) 25(29.21,7.62) 26(26.67,7.62) 27(24.13,7.62) 28(21.59,7.62) 29(19.05,7.62) 30(16.51,7.62) 31(13.97,7.62) 32(11.43,7.62) 33(8.89,7.62) 34(6.35,7.62) 35(3.81,7.62) 36(1.27,7.62) 37(-1.27,7.62) 38(-3.81,7.62) 39(-6.35,7.62) 40(-8.89,7.62) 41(-11.43,7.62) 42(-13.97,7.62) 43(-16.51,7.62) 44(-19.05,7.62) 45(-21.59,7.62) 46(-24.13,7.62) 47(-26.67,7.62) 48(-29.21,7.62)
Top Overlay:
  circle w0.102: c-39.41,0 r1.53
  circle w0.203: c-40.22,-9.81 r2.072
  circle w0.102: c31.99,0 r1.53
  lines w0.102: -39.65,-0.3 ccw(c-39.72,-0.3) -39.72,-0.23 -40.26,-0.23 cw(c-40.26,0) -40.49,0 cw(c-40.26,0) -40.26,0.23 -39.71,0.23 ccw(c-39.71,0.3) -39.64,0.3 ; -39.64,-0.3 -39.64,-0.85 ccw(c-39.41,-0.85) -39.41,-1.08 ccw(c-39.41,-0.85) -39.18,-0.85 -39.18,-0.31 ; -39.64,0.31 -39.64,0.85 cw(c-39.41,0.85) -39.41,1.08 cw(c-39.41,0.85) -39.18,0.85 -39.18,0.3 ccw(c-39.11,0.3) -39.11,0.23 ; -39.18,-0.3 cw(c-39.11,-0.3) -39.11,-0.23 -38.56,-0.23 ccw(c-38.56,0) -38.33,0 ccw(c-38.56,0) -38.56,0.23 -39.1,0.23 ; -33.26,3.61 -32.21,3.61 -32.21,4.18 ; -33.24,-2.94 -33.24,-2.15 ; -33.24,-1.18 -33.24,-1.88 -32.2,-1.88 -32.2,-1.15 ; -33.24,-0.84 -32.2,-0.12 ; -33.24,-0.12 -32.2,-0.84 ; -33.24,0.12 -33.24,0.9 ; -33.23,-2.54 -32.2,-2.54 ; -33.22,0.52 -32.2,0.52 ; -32.95,4.76 cw(c-32.884,5.072) -33.2,5.11 cw(c-32.971,5.082) -33.09,5.28 cw(c-32.935,5.023) -32.82,5.3 cw(c-32.895,5.12) -32.7,5.12 ; -32.73,-1.84 -32.73,-1.24 ; -32.7,5.03 -32.7,5.12 ; -32.43,4.74 ccw(c-32.424,4.968) -32.2,4.92 ccw(c-32.775,5.046) -32.19,5.11 ccw(c-32.486,5.077) -32.3,5.31 ccw(c-32.454,5.117) -32.58,5.33 ccw(c-32.456,5.12) -32.7,5.12 ; -32.2,5.66 -33.23,5.66 -32.2,6.13 -33.24,6.61 -32.2,6.61 ; 31.75,-0.3 ccw(c31.68,-0.3) 31.68,-0.23 31.14,-0.23 cw(c31.14,0) 30.91,0 cw(c31.14,0) 31.14,0.23 31.69,0.23 ccw(c31.69,0.3) 31.76,0.3 ; 31.76,-0.3 31.76,-0.85 ccw(c31.99,-0.85) 31.99,-1.08 ccw(c31.99,-0.85) 32.22,-0.85 32.22,-0.31 ; 31.76,0.31 31.76,0.85 cw(c31.99,0.85) 31.99,1.08 cw(c31.99,0.85) 32.22,0.85 32.22,0.3 ccw(c32.29,0.3) 32.29,0.23 ; 32.22,-0.3 cw(c32.29,-0.3) 32.29,-0.23 32.84,-0.23 ccw(c32.84,0) 33.07,0 ccw(c32.84,0) 32.84,0.23 32.3,0.23 ; -30.861,-10.16 30.861,-10.16 ; -30.861,-10.16 -30.861,-2.032 30.861,-2.032 30.861,-10.16 ; -30.861,-10.16 -30.099,-9.144 30.099,-9.144 30.861,-10.16 ; -30.861,10.16 -30.861,2.032 30.861,2.032 30.861,10.16 ; -30.861,10.16 30.861,10.16 ; -30.861,10.16 -30.099,9.144 30.099,9.144 30.861,10.16 ; -32.78,1.1 cw(c-32.78,1.57) -32.78,2.04 -32.65,2.04 cw(c-32.65,1.57) -32.65,1.1 -32.78,1.1 ; -32.78,2.33 cw(c-32.78,2.8) -32.78,3.27 -32.65,3.27 cw(c-32.65,2.8) -32.65,2.33 -32.78,2.33 ; -21.082,-1.27 -9.271,-1.27 -9.271,1.27 -21.082,1.27 -21.082,-1.27
  lines w0.203: -46.18,-10.61 -40.27,-10.61 ; -46.18,-9.06 -40.27,-9.06 ; -41.87,-7.71 -38.62,-7.71 cw(c-38.62,-9.711) -36.62,-9.66 -36.62,-10.31 ccw(c-35.619,-10.31) -35.57,-11.31 ; -54.28,-10.88 -54.28,-8.74 cw(c-53.28,-8.74) -53.28,-7.74 -47.23,-7.74 cw(c-47.23,-8.74) -46.23,-8.74 -46.23,-10.88 cw(c-47.23,-10.88) -47.23,-11.88 -53.28,-11.88 cw(c-53.28,-10.88) -54.28,-10.88 ; -41.98,-10.31 ccw(c-40.98,-10.31) -40.98,-11.31 32.62,-11.31 ccw(c32.62,-10.31) 33.62,-10.31 33.62,10.31 ccw(c32.62,10.31) 32.62,11.31 -40.98,11.31 ccw(c-40.98,10.31) -41.98,10.31 -41.98,-10.31
  text "248-1282-00" at -10.287,0.508 h0.86
Mechanical 16:
  lines w0.102: -30.099,-9.144 -30.099,-2.032 ; -30.099,2.032 -30.099,9.144 ; -28.321,-9.144 -28.321,-2.032 ; -28.321,2.032 -28.321,9.144 ; -27.559,-9.144 -27.559,-2.032 ; -27.559,2.032 -27.559,9.144 ; -25.781,-9.144 -25.781,-2.032 ; -25.781,2.032 -25.781,9.144 ; -25.019,-9.144 -25.019,-2.032 ; -25.019,2.032 -25.019,9.144 ; -23.241,-9.144 -23.241,-2.032 ; -23.241,2.032 -23.241,9.144 ; -22.479,-9.144 -22.479,-2.032 ; -22.479,2.032 -22.479,9.144 ; -20.701,-9.144 -20.701,-2.032 ; -20.701,2.032 -20.701,9.144 ; -19.939,-9.144 -19.939,-2.032 ; -19.939,2.032 -19.939,9.144 ; -18.161,-9.144 -18.161,-2.032 ; -18.161,2.032 -18.161,9.144 ; -17.399,-9.144 -17.399,-2.032 ; -17.399,2.032 -17.399,9.144 ; -15.621,-9.144 -15.621,-2.032 ; -15.621,2.032 -15.621,9.144 ; -14.859,-9.144 -14.859,-2.032 ; -14.859,2.032 -14.859,9.144 ; -13.081,-9.144 -13.081,-2.032 ; -13.081,2.032 -13.081,9.144 ; -12.319,-9.144 -12.319,-2.032 ; -12.319,2.032 -12.319,9.144 ; -10.541,-9.144 -10.541,-2.032 ; -10.541,2.032 -10.541,9.144 ; -9.779,-9.144 -9.779,-2.032 ; -9.779,2.032 -9.779,9.144 ; -8.001,-9.144 -8.001,-2.032 ; -8.001,2.032 -8.001,9.144 ; -7.239,-9.144 -7.239,-2.032 ; -7.239,2.032 -7.239,9.144 ; -5.461,-9.144 -5.461,-2.032 ; -5.461,2.032 -5.461,9.144 ; -4.699,-9.144 -4.699,-2.032 ; -4.699,2.032 -4.699,9.144 ; -2.921,-9.144 -2.921,-2.032 ; -2.921,2.032 -2.921,9.144 ; -2.159,-9.144 -2.159,-2.032 ; -2.159,2.032 -2.159,9.144 ; -0.381,-9.144 -0.381,-2.032 ; -0.381,2.032 -0.381,9.144 ; 0.381,-9.144 0.381,-2.032 ; 0.381,2.032 0.381,9.144 ; 2.159,-9.144 2.159,-2.032 ; 2.159,2.032 2.159,9.144 ; 2.921,-9.144 2.921,-2.032 ; 2.921,2.032 2.921,9.144 ; 4.699,-9.144 4.699,-2.032 ; 4.699,2.032 4.699,9.144 ; 5.461,-9.144 5.461,-2.032 ; 5.461,2.032 5.461,9.144 ; 7.239,-9.144 7.239,-2.032 ; 7.239,2.032 7.239,9.144 ; 8.001,-9.144 8.001,-2.032 ; 8.001,2.032 8.001,9.144 ; 9.779,-9.144 9.779,-2.032 ; 9.779,2.032 9.779,9.144 ; 10.541,-9.144 10.541,-2.032 ; 10.541,2.032 10.541,9.144 ; 12.319,-9.144 12.319,-2.032 ; 12.319,2.032 12.319,9.144 ; 13.081,-9.144 13.081,-2.032 ; 13.081,2.032 13.081,9.144 ; 14.859,-9.144 14.859,-2.032 ; 14.859,2.032 14.859,9.144 ; 15.621,-9.144 15.621,-2.032 ; 15.621,2.032 15.621,9.144 ; 17.399,-9.144 17.399,-2.032 ; 17.399,2.032 17.399,9.144 ; 18.161,-9.144 18.161,-2.032 ; 18.161,2.032 18.161,9.144 ; 19.939,-9.144 19.939,-2.032 ; 19.939,2.032 19.939,9.144 ; 20.701,-9.144 20.701,-2.032 ; 20.701,2.032 20.701,9.144 ; 22.479,-9.144 22.479,-2.032 ; 22.479,2.032 22.479,9.144 ; 23.241,-9.144 23.241,-2.032 ; 23.241,2.032 23.241,9.144 ; 25.019,-9.144 25.019,-2.032 ; 25.019,2.032 25.019,9.144 ; 25.781,-9.144 25.781,-2.032 ; 25.781,2.032 25.781,9.144 ; 27.559,-9.144 27.559,-2.032 ; 27.559,2.032 27.559,9.144 ; 28.321,-9.144 28.321,-2.032 ; 28.321,2.032 28.321,9.144 ; 30.099,-9.144 30.099,-2.032 ; 30.099,2.032 30.099,9.144

## 264-4493-00-0602J [mm]
pads (66):
  round 2 hole 2: 1(-49.56,0) 1(45.14,0)
  oval 1.35x2.7 hole 0.9: 1(-39.37,-11.43) 2(-36.83,-11.43) 3(-34.29,-11.43) 4(-31.75,-11.43) 5(-29.21,-11.43) 6(-26.67,-11.43) 7(-24.13,-11.43) 8(-21.59,-11.43) 9(-19.05,-11.43) 10(-16.51,-11.43) 11(-13.97,-11.43) 12(-11.43,-11.43) 13(-8.89,-11.43) 14(-6.35,-11.43) 15(-3.81,-11.43) 16(-1.27,-11.43) 17(1.27,-11.43) 18(3.81,-11.43) 19(6.35,-11.43) 20(8.89,-11.43) 21(11.43,-11.43) 22(13.97,-11.43) 23(16.51,-11.43) 24(19.05,-11.43) 25(21.59,-11.43) 26(24.13,-11.43) 27(26.67,-11.43) 28(29.21,-11.43) 29(31.75,-11.43) 30(34.29,-11.43) 31(36.83,-11.43) 32(39.37,-11.43) 33(39.37,11.43) 34(36.83,11.43) 35(34.29,11.43) 36(31.75,11.43) 37(29.21,11.43) 38(26.67,11.43) 39(24.13,11.43) 40(21.59,11.43) 41(19.05,11.43) 42(16.51,11.43) 43(13.97,11.43) 44(11.43,11.43) 45(8.89,11.43) 46(6.35,11.43) 47(3.81,11.43) 48(1.27,11.43) 49(-1.27,11.43) 50(-3.81,11.43) 51(-6.35,11.43) 52(-8.89,11.43) 53(-11.43,11.43) 54(-13.97,11.43) 55(-16.51,11.43) 56(-19.05,11.43) 57(-21.59,11.43) 58(-24.13,11.43) 59(-26.67,11.43) 60(-29.21,11.43) 61(-31.75,11.43) 62(-34.29,11.43) 63(-36.83,11.43) 64(-39.37,11.43)
Top Overlay:
  circle w0.102: c-49.57,0 r1.53
  circle w0.203: c-50.38,-14.89 r2.072
  circle w0.102: c45.13,0 r1.53
  lines w0.102: -49.81,-0.3 ccw(c-49.88,-0.3) -49.88,-0.23 -50.42,-0.23 cw(c-50.42,0) -50.65,0 cw(c-50.42,0) -50.42,0.23 -49.87,0.23 ccw(c-49.87,0.3) -49.8,0.3 ; -49.8,-0.3 -49.8,-0.85 ccw(c-49.57,-0.85) -49.57,-1.08 ccw(c-49.57,-0.85) -49.34,-0.85 -49.34,-0.31 ; -49.8,0.31 -49.8,0.85 cw(c-49.57,0.85) -49.57,1.08 cw(c-49.57,0.85) -49.34,0.85 -49.34,0.3 ccw(c-49.27,0.3) -49.27,0.23 ; -49.34,-0.3 cw(c-49.27,-0.3) -49.27,-0.23 -48.72,-0.23 ccw(c-48.72,0) -48.49,0 ccw(c-48.72,0) -48.72,0.23 -49.26,0.23 ; -43.42,3.61 -42.37,3.61 -42.37,4.18 ; -43.4,-2.94 -43.4,-2.15 ; -43.4,-1.18 -43.4,-1.88 -42.36,-1.88 -42.36,-1.15 ; -43.4,-0.84 -42.36,-0.12 ; -43.4,-0.12 -42.36,-0.84 ; -43.4,0.12 -43.4,0.9 ; -43.39,-2.54 -42.36,-2.54 ; -43.38,0.52 -42.36,0.52 ; -43.11,4.76 cw(c-43.044,5.072) -43.36,5.11 cw(c-43.131,5.082) -43.25,5.28 cw(c-43.095,5.023) -42.98,5.3 cw(c-43.055,5.12) -42.86,5.12 ; -42.89,-1.84 -42.89,-1.24 ; -42.86,5.03 -42.86,5.12 ; -42.59,4.74 ccw(c-42.584,4.968) -42.36,4.92 ccw(c-42.935,5.046) -42.35,5.11 ccw(c-42.646,5.077) -42.46,5.31 ccw(c-42.614,5.117) -42.74,5.33 ccw(c-42.616,5.12) -42.86,5.12 ; -42.36,5.66 -43.39,5.66 -42.36,6.13 -43.4,6.61 -42.36,6.61 ; 44.89,-0.3 ccw(c44.82,-0.3) 44.82,-0.23 44.28,-0.23 cw(c44.28,0) 44.05,0 cw(c44.28,0) 44.28,0.23 44.83,0.23 ccw(c44.83,0.3) 44.9,0.3 ; 44.9,-0.3 44.9,-0.85 ccw(c45.13,-0.85) 45.13,-1.08 ccw(c45.13,-0.85) 45.36,-0.85 45.36,-0.31 ; 44.9,0.31 44.9,0.85 cw(c45.13,0.85) 45.13,1.08 cw(c45.13,0.85) 45.36,0.85 45.36,0.3 ccw(c45.43,0.3) 45.43,0.23 ; 45.36,-0.3 cw(c45.43,-0.3) 45.43,-0.23 45.98,-0.23 ccw(c45.98,0) 46.21,0 ccw(c45.98,0) 45.98,0.23 45.44,0.23 ; -41.021,-15.24 41.021,-15.24 ; -41.021,-15.24 -41.021,-2.032 41.021,-2.032 41.021,-15.24 ; -41.021,-15.24 -40.259,-14.224 40.259,-14.224 41.021,-15.24 ; -41.021,15.24 -41.021,2.032 41.021,2.032 41.021,15.24 ; -41.021,15.24 41.021,15.24 ; -41.021,15.24 -40.259,14.224 40.259,14.224 41.021,15.24 ; -42.94,1.1 cw(c-42.94,1.57) -42.94,2.04 -42.81,2.04 cw(c-42.81,1.57) -42.81,1.1 -42.94,1.1 ; -42.94,2.33 cw(c-42.94,2.8) -42.94,3.27 -42.81,3.27 cw(c-42.81,2.8) -42.81,2.33 -42.94,2.33 ; -31.242,-1.27 -19.431,-1.27 -19.431,1.27 -31.242,1.27 -31.242,-1.27
  lines w0.203: -56.34,-15.69 -50.43,-15.69 ; -56.34,-14.14 -50.43,-14.14 ; -52.03,-12.79 -48.78,-12.79 cw(c-48.78,-14.791) -46.78,-14.74 -46.78,-15.39 ccw(c-45.779,-15.39) -45.73,-16.39 ; -64.44,-15.96 -64.44,-13.82 cw(c-63.44,-13.82) -63.44,-12.82 -57.39,-12.82 cw(c-57.39,-13.82) -56.39,-13.82 -56.39,-15.96 cw(c-57.39,-15.96) -57.39,-16.96 -63.44,-16.96 cw(c-63.44,-15.96) -64.44,-15.96 ; -52.14,-15.39 ccw(c-51.14,-15.39) -51.14,-16.39 46.96,-16.39 ccw(c46.96,-15.39) 47.96,-15.39 47.96,15.39 ccw(c46.96,15.39) 46.96,16.39 -51.14,16.39 ccw(c-51.14,15.39) -52.14,15.39 -52.14,-15.39
  text "264-4493-00" at -20.447,0.508 h0.86
Mechanical 16:
  lines w0.102: -40.259,-14.224 -40.259,-2.032 ; -40.259,2.032 -40.259,14.224 ; -38.481,-14.224 -38.481,-2.032 ; -38.481,2.032 -38.481,14.224 ; -37.719,-14.224 -37.719,-2.032 ; -37.719,2.032 -37.719,14.224 ; -35.941,-14.224 -35.941,-2.032 ; -35.941,2.032 -35.941,14.224 ; -35.179,-14.224 -35.179,-2.032 ; -35.179,2.032 -35.179,14.224 ; -33.401,-14.224 -33.401,-2.032 ; -33.401,2.032 -33.401,14.224 ; -32.639,-14.224 -32.639,-2.032 ; -32.639,2.032 -32.639,14.224 ; -30.861,-14.224 -30.861,-2.032 ; -30.861,2.032 -30.861,14.224 ; -30.099,-14.224 -30.099,-2.032 ; -30.099,2.032 -30.099,14.224 ; -28.321,-14.224 -28.321,-2.032 ; -28.321,2.032 -28.321,14.224 ; -27.559,-14.224 -27.559,-2.032 ; -27.559,2.032 -27.559,14.224 ; -25.781,-14.224 -25.781,-2.032 ; -25.781,2.032 -25.781,14.224 ; -25.019,-14.224 -25.019,-2.032 ; -25.019,2.032 -25.019,14.224 ; -23.241,-14.224 -23.241,-2.032 ; -23.241,2.032 -23.241,14.224 ; -22.479,-14.224 -22.479,-2.032 ; -22.479,2.032 -22.479,14.224 ; -20.701,-14.224 -20.701,-2.032 ; -20.701,2.032 -20.701,14.224 ; -19.939,-14.224 -19.939,-2.032 ; -19.939,2.032 -19.939,14.224 ; -18.161,-14.224 -18.161,-2.032 ; -18.161,2.032 -18.161,14.224 ; -17.399,-14.224 -17.399,-2.032 ; -17.399,2.032 -17.399,14.224 ; -15.621,-14.224 -15.621,-2.032 ; -15.621,2.032 -15.621,14.224 ; -14.859,-14.224 -14.859,-2.032 ; -14.859,2.032 -14.859,14.224 ; -13.081,-14.224 -13.081,-2.032 ; -13.081,2.032 -13.081,14.224 ; -12.319,-14.224 -12.319,-2.032 ; -12.319,2.032 -12.319,14.224 ; -10.541,-14.224 -10.541,-2.032 ; -10.541,2.032 -10.541,14.224 ; -9.779,-14.224 -9.779,-2.032 ; -9.779,2.032 -9.779,14.224 ; -8.001,-14.224 -8.001,-2.032 ; -8.001,2.032 -8.001,14.224 ; -7.239,-14.224 -7.239,-2.032 ; -7.239,2.032 -7.239,14.224 ; -5.461,-14.224 -5.461,-2.032 ; -5.461,2.032 -5.461,14.224 ; -4.699,-14.224 -4.699,-2.032 ; -4.699,2.032 -4.699,14.224 ; -2.921,-14.224 -2.921,-2.032 ; -2.921,2.032 -2.921,14.224 ; -2.159,-14.224 -2.159,-2.032 ; -2.159,2.032 -2.159,14.224 ; -0.381,-14.224 -0.381,-2.032 ; -0.381,2.032 -0.381,14.224 ; 0.381,-14.224 0.381,-2.032 ; 0.381,2.032 0.381,14.224 ; 2.159,-14.224 2.159,-2.032 ; 2.159,2.032 2.159,14.224 ; 2.921,-14.224 2.921,-2.032 ; 2.921,2.032 2.921,14.224 ; 4.699,-14.224 4.699,-2.032 ; 4.699,2.032 4.699,14.224 ; 5.461,-14.224 5.461,-2.032 ; 5.461,2.032 5.461,14.224 ; 7.239,-14.224 7.239,-2.032 ; 7.239,2.032 7.239,14.224 ; 8.001,-14.224 8.001,-2.032 ; 8.001,2.032 8.001,14.224 ; 9.779,-14.224 9.779,-2.032 ; 9.779,2.032 9.779,14.224 ; 10.541,-14.224 10.541,-2.032 ; 10.541,2.032 10.541,14.224 ; 12.319,-14.224 12.319,-2.032 ; 12.319,2.032 12.319,14.224 ; 13.081,-14.224 13.081,-2.032 ; 13.081,2.032 13.081,14.224 ; 14.859,-14.224 14.859,-2.032 ; 14.859,2.032 14.859,14.224 ; 15.621,-14.224 15.621,-2.032 ; 15.621,2.032 15.621,14.224 ; 17.399,-14.224 17.399,-2.032 ; 17.399,2.032 17.399,14.224 ; 18.161,-14.224 18.161,-2.032 ; 18.161,2.032 18.161,14.224 ; 19.939,-14.224 19.939,-2.032 ; 19.939,2.032 19.939,14.224 ; 20.701,-14.224 20.701,-2.032 ; 20.701,2.032 20.701,14.224 ; 22.479,-14.224 22.479,-2.032 ; 22.479,2.032 22.479,14.224 ; 23.241,-14.224 23.241,-2.032 ; 23.241,2.032 23.241,14.224 ; 25.019,-14.224 25.019,-2.032 ; 25.019,2.032 25.019,14.224 ; 25.781,-14.224 25.781,-2.032 ; 25.781,2.032 25.781,14.224 ; 27.559,-14.224 27.559,-2.032 ; 27.559,2.032 27.559,14.224 ; 28.321,-14.224 28.321,-2.032 ; 28.321,2.032 28.321,14.224 ; 30.099,-14.224 30.099,-2.032 ; 30.099,2.032 30.099,14.224 ; 30.861,-14.224 30.861,-2.032 ; 30.861,2.032 30.861,14.224 ; 32.639,-14.224 32.639,-2.032 ; 32.639,2.032 32.639,14.224 ; 33.401,-14.224 33.401,-2.032 ; 33.401,2.032 33.401,14.224 ; 35.179,-14.224 35.179,-2.032 ; 35.179,2.032 35.179,14.224 ; 35.941,-14.224 35.941,-2.032 ; 35.941,2.032 35.941,14.224 ; 37.719,-14.224 37.719,-2.032 ; 37.719,2.032 37.719,14.224 ; 38.481,-14.224 38.481,-2.032 ; 38.481,2.032 38.481,14.224 ; 40.259,-14.224 40.259,-2.032 ; 40.259,2.032 40.259,14.224